# EAGLE library part 1X06 (library headers)
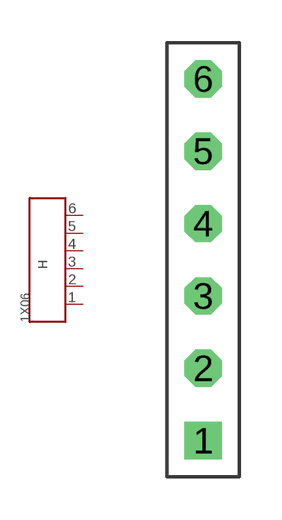
[diagram p2: symbol with the pads of DIP0.1-1X06; footprint DIP0.1-1X06]

Designator prefix H

## 1X06  [DIP0.1-1X06]
1  1
2  2
3  3
4  4
5  5
6  6

## Footprint DIP0.1-1X06 (pad centres in mm)
drill 0.8 square: 1 0,-6.35
drill 0.8 octagon: 2 0,-3.81; 3 0,-1.27; 4 0,1.27; 5 0,3.81; 6 0,6.35